# Altium schematic symbol library SY6280AAC.SchLib: 1 symbol
Pins are listed as number, name and electrical type; pins without a type are passive.

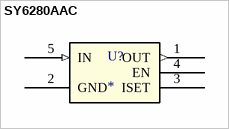
[diagram p0: symbol SY6280AAC]

## SY6280AAC
designator U?
SMDICSY6280AAC; Mfr_Name: Silergy; Manufacturer: Olimex; RefDes: RefDes; Type: Type; Supplier: Mouser; Supplier Part Number: 909-SMDICSY6280AAC; Manufacturer Part Number: SMDICSY6280AAC; RoHS: No; Category: LDO
footprint SOT23-5_SGY
pins: 1 OUT (out), 2 GND, 3 ISET, 4 EN, 5 IN (in)